# EAGLE library part HDR-2X5 (library Digilent)
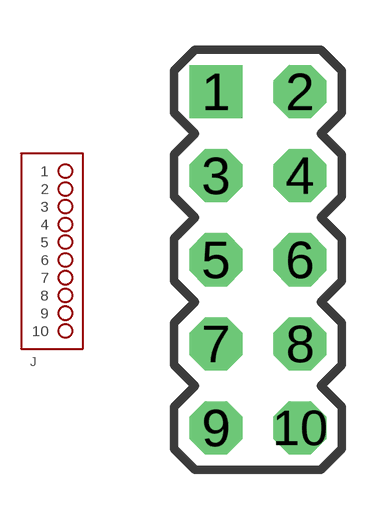
[diagram p1: symbol with the pads of HDR-2X5; footprint HDR-2X5]

Designator prefix J

## HDR-2X5  [HDR-2X5]
1  1  pas
2  2  pas
3  3  pas
4  4  pas
5  5  pas
6  6  pas
7  7  pas
8  8  pas
9  9  pas
10  10  pas

## Footprint HDR-2X5 (pad centres in mm)
drill 1.067 square: 1 -1.27,5.08
drill 1.067 octagon: 2 1.27,5.08; 3 -1.27,2.54; 4 1.27,2.54; 5 -1.27,0; 6 1.27,0; 7 -1.27,-2.54; 8 1.27,-2.54; 9 -1.27,-5.08; 10 1.27,-5.08